# Altium schematic symbol library RMCF0805FG1M00.SchLib: 1 symbol
Pins are listed as number, name and electrical type; pins without a type are passive.

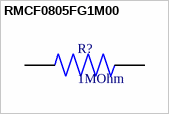
[diagram p0: symbol RMCF0805FG1M00]

## RMCF0805FG1M00
designator R?, comment 1MOhm
MP: RMCF0805FG1M00; Package: None; Price: None; Value: *; Availability: Unavailable; Supplier 1: Digi-Key; Supplier Part Number 1: RMCF0805FG1M00CT-ND
footprint RESC2012X65N
pins: 1, 2